# Altium footprint library PAL.PcbLib: 183 footprints (part 5 of 12)
Each footprint in its own frame and in the unit in brackets; x right, y up, seen from the top. Pads: shape width x height; smd on the part's side, far side on the other; paste and mask are expansions set on the pad; w line width, h text height; cw(c..) or ccw(c..) is an arc to the next point about the centre after c.
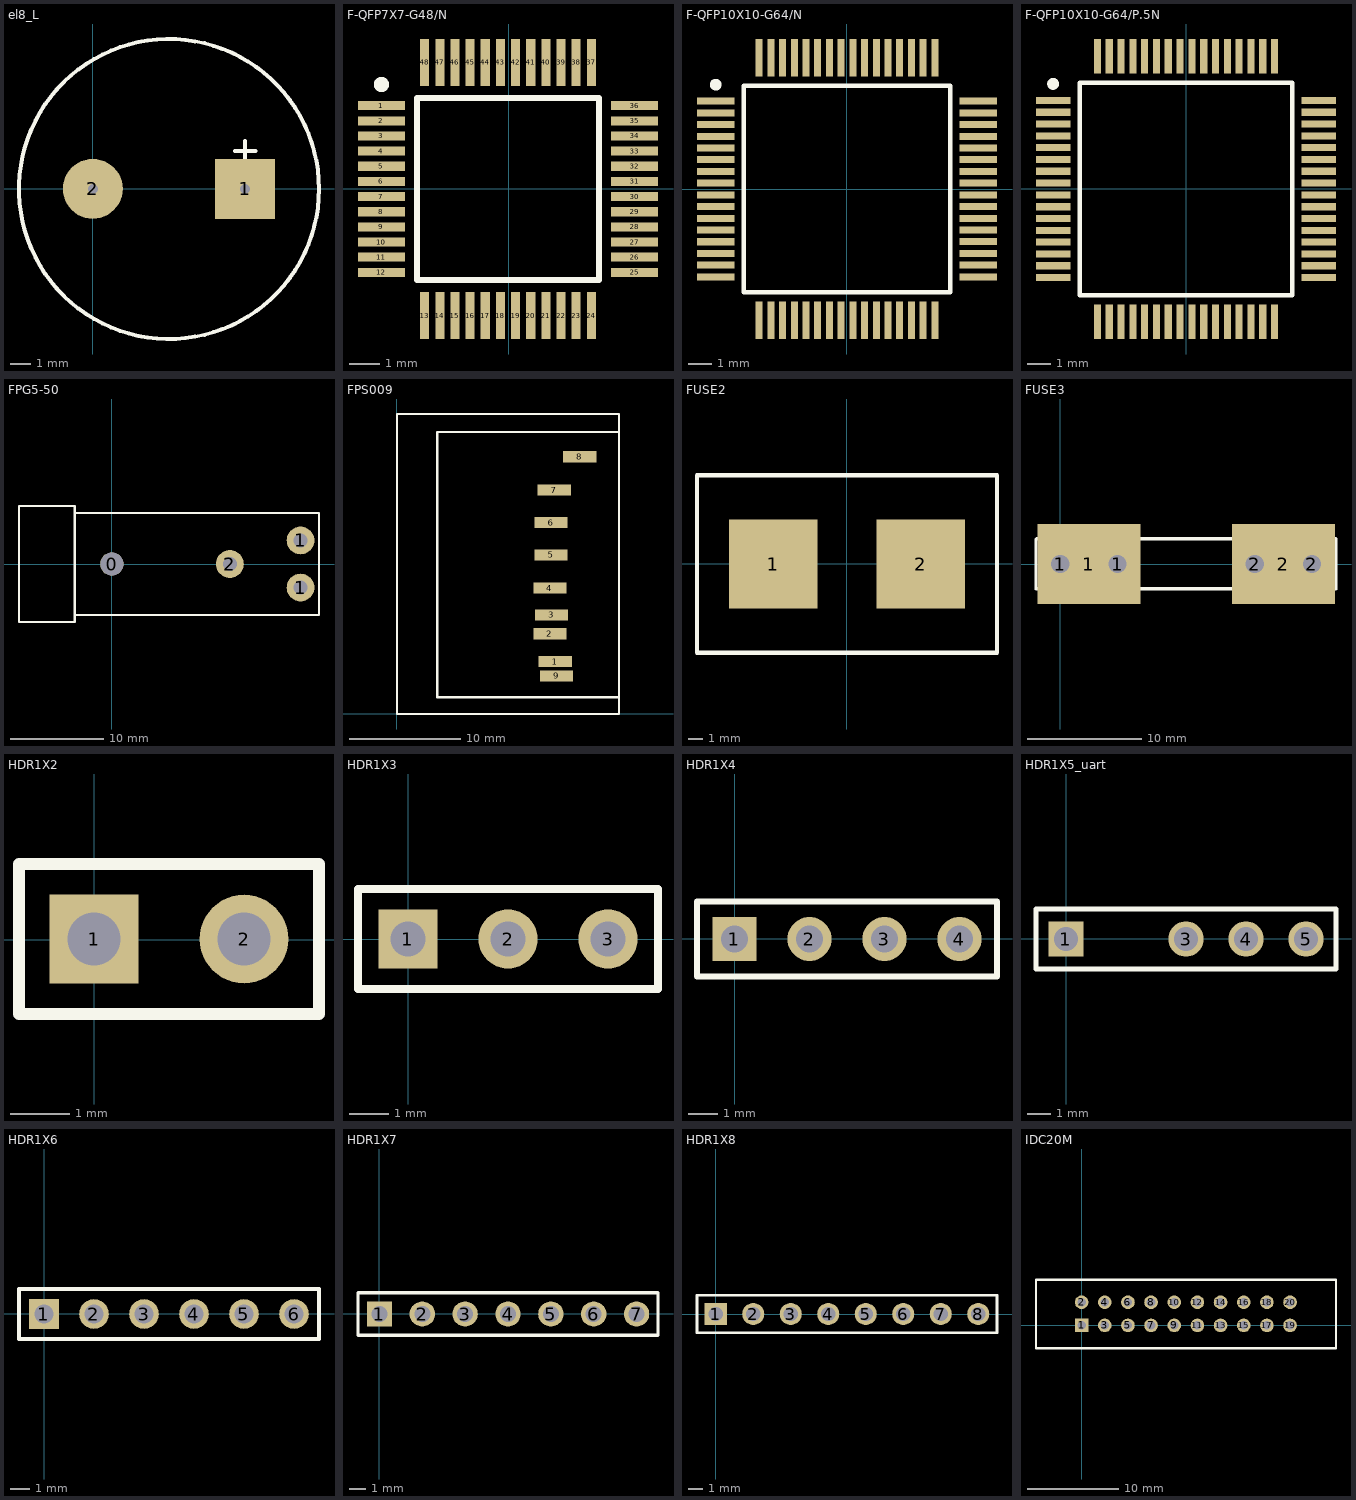
[diagram p4: the footprints below, top view; thin cyan lines are the x and y axes]

## el8_L [mm]
pads (2):
  rect 3x3 hole 0.5: 1(7.62,0)
  round 3 hole 0.5: 2(0,0)
Top Overlay:
  circle w0.2: c3.811,-0.011 r7.5
  lines w0.2: 7.111,1.889 8.127,1.889 ; 7.611,1.373 7.611,2.389

## F-QFP7X7-G48/N [mm]
pads (48):
  rect 1.55x0.3 smd: 1(-4.192,2.749) 2(-4.192,2.249) 3(-4.192,1.749) 4(-4.192,1.249) 5(-4.192,0.749) 6(-4.192,0.249) 7(-4.192,-0.251) 8(-4.192,-0.751) 9(-4.192,-1.251) 10(-4.192,-1.751) 11(-4.192,-2.251) 12(-4.192,-2.751) 25(4.158,-2.751) 26(4.158,-2.251) 27(4.158,-1.751) 28(4.158,-1.251) 29(4.158,-0.751) 30(4.158,-0.251) 31(4.158,0.249) 32(4.158,0.749) 33(4.158,1.249) 34(4.158,1.749) 35(4.158,2.249) 36(4.158,2.749)
  rect 0.3x1.55 smd: 13(-2.767,-4.176) 14(-2.267,-4.176) 15(-1.767,-4.176) 16(-1.267,-4.176) 17(-0.767,-4.176) 18(-0.267,-4.176) 19(0.233,-4.176) 20(0.733,-4.176) 21(1.233,-4.176) 22(1.733,-4.176) 23(2.233,-4.176) 24(2.733,-4.176) 37(2.733,4.174) 38(2.233,4.174) 39(1.733,4.174) 40(1.233,4.174) 41(0.733,4.174) 42(0.233,4.174) 43(-0.267,4.174) 44(-0.767,4.174) 45(-1.267,4.174) 46(-1.767,4.174) 47(-2.267,4.174) 48(-2.767,4.174)
Top Overlay:
  circle w0.25: c-4.192,3.449 r0.125
  lines w0.2: -3.017,-3.001 -3.017,2.999 2.983,2.999 2.983,-3.001 -3.017,-3.001

## F-QFP10X10-G64/N [mm]
pads (64):
  rect 1.6x0.3 smd: 1(-5.598,3.754) 2(-5.598,3.254) 3(-5.598,2.754) 4(-5.598,2.254) 5(-5.598,1.754) 6(-5.598,1.254) 7(-5.598,0.754) 8(-5.598,0.254) 9(-5.598,-0.246) 10(-5.598,-0.746) 11(-5.598,-1.246) 12(-5.598,-1.746) 13(-5.598,-2.246) 14(-5.598,-2.746) 15(-5.598,-3.246) 16(-5.598,-3.746) 33(5.602,-3.746) 34(5.602,-3.246) 35(5.602,-2.746) 36(5.602,-2.246) 37(5.602,-1.746) 38(5.602,-1.246) 39(5.602,-0.746) 40(5.602,-0.246) 41(5.602,0.254) 42(5.602,0.754) 43(5.602,1.254) 44(5.602,1.754) 45(5.602,2.254) 46(5.602,2.754) 47(5.602,3.254) 48(5.602,3.754)
  rect 0.3x1.6 smd: 17(-3.748,-5.596) 18(-3.248,-5.596) 19(-2.748,-5.596) 20(-2.248,-5.596) 21(-1.748,-5.596) 22(-1.248,-5.596) 23(-0.748,-5.596) 24(-0.248,-5.596) 25(0.252,-5.596) 26(0.752,-5.596) 27(1.252,-5.596) 28(1.752,-5.596) 29(2.252,-5.596) 30(2.752,-5.596) 31(3.252,-5.596) 32(3.752,-5.596) 49(3.752,5.604) 50(3.252,5.604) 51(2.752,5.604) 52(2.252,5.604) 53(1.752,5.604) 54(1.252,5.604) 55(0.752,5.604) 56(0.252,5.604) 57(-0.248,5.604) 58(-0.748,5.604) 59(-1.248,5.604) 60(-1.748,5.604) 61(-2.248,5.604) 62(-2.748,5.604) 63(-3.248,5.604) 64(-3.748,5.604)
Top Overlay:
  circle w0.25: c-5.598,4.454 r0.125
  lines w0.2: -4.398,-4.396 4.402,-4.396 4.402,4.404 -4.398,4.404 -4.398,-4.396

## F-QFP10X10-G64/P.5N [mm]
pads (64):
  rect 1.45x0.3 smd: 1(-5.627,3.74) 2(-5.627,3.24) 3(-5.627,2.74) 4(-5.627,2.24) 5(-5.627,1.74) 6(-5.627,1.24) 7(-5.627,0.74) 8(-5.627,0.24) 9(-5.627,-0.26) 10(-5.627,-0.76) 11(-5.627,-1.26) 12(-5.627,-1.76) 13(-5.627,-2.26) 14(-5.627,-2.76) 15(-5.627,-3.26) 16(-5.627,-3.76) 33(5.623,-3.76) 34(5.623,-3.26) 35(5.623,-2.76) 36(5.623,-2.26) 37(5.623,-1.76) 38(5.623,-1.26) 39(5.623,-0.76) 40(5.623,-0.26) 41(5.623,0.24) 42(5.623,0.74) 43(5.623,1.24) 44(5.623,1.74) 45(5.623,2.24) 46(5.623,2.74) 47(5.623,3.24) 48(5.623,3.74)
  rect 0.3x1.45 smd: 17(-3.752,-5.635) 18(-3.252,-5.635) 19(-2.752,-5.635) 20(-2.252,-5.635) 21(-1.752,-5.635) 22(-1.252,-5.635) 23(-0.752,-5.635) 24(-0.252,-5.635) 25(0.248,-5.635) 26(0.748,-5.635) 27(1.248,-5.635) 28(1.748,-5.635) 29(2.248,-5.635) 30(2.748,-5.635) 31(3.248,-5.635) 32(3.748,-5.635) 49(3.748,5.615) 50(3.248,5.615) 51(2.748,5.615) 52(2.248,5.615) 53(1.748,5.615) 54(1.248,5.615) 55(0.748,5.615) 56(0.248,5.615) 57(-0.252,5.615) 58(-0.752,5.615) 59(-1.252,5.615) 60(-1.752,5.615) 61(-2.252,5.615) 62(-2.752,5.615) 63(-3.252,5.615) 64(-3.752,5.615)
Top Overlay:
  circle w0.25: c-5.627,4.44 r0.125
  lines w0.2: -4.502,-4.51 4.498,-4.51 4.498,4.49 -4.502,4.49 -4.502,-4.51

## FPG5-50 [mm]
pads (4):
  round 2.5 hole 2.5: 0(0,0)
  round 3 hole 1.5: 1(20.32,-2.54) 1(20.32,2.54) 2(12.7,0)
Top Overlay:
  lines w0.25: -4,-5.5 22.3,-5.5 22.3,5.5 -4,5.5 ; -10,-6.25 -4,-6.25 -4,6.25 -10,6.25 -10,-6.25

## FPS009 [mm]
pads (9):
  rect 3x1 smd: 1(14.25,4.7) 2(13.775,7.2) 3(13.925,8.9) 4(13.775,11.325) 5(13.875,14.3) 6(13.875,17.225) 7(14.175,20.15) 8(16.45,23.15) 9(14.375,3.4)
Top Overlay:
  lines w0.2: 20,1.475 3.625,1.475 3.625,25.375 20,25.375 ; 0,-0.025 20,-0.025 20,27 0,27 0,-0.025

## FUSE2 [mm]
pads (2):
  rect 6x6 smd: 1(-4.999,-0.006) 2(5.001,-0.006)
Top Overlay:
  lines w0.3: -10.159,-6.006 10.161,-6.006 10.161,5.994 -10.159,5.994 -10.159,-6.006

## FUSE3 [mm]
pads (6):
  round 2.5 hole 1.6: 1(-0.002,0.011) 1(4.998,0.011) 2(16.998,0.011) 2(21.998,0.011)
  rect 9x7 smd: 1(2.498,0.011) 2(19.498,0.011)
Top Overlay:
  lines w0.3: -2.052,2.211 -2.127,2.136 -2.127,-2.139 -2.102,-2.164 24.073,-2.164 24.098,-2.139 24.098,2.236 -1.977,2.236

## HDR1X2 [mm]
pads (2):
  rect 1.5x1.5 hole 0.9: 1(-0.005,0.012)
  round 1.5 hole 0.9: 2(2.535,0.012)
Top Overlay:
  lines w0.2: -1.275,-1.258 -1.275,1.282 3.805,1.282 3.805,-1.258 -1.275,-1.258

## HDR1X3 [mm]
pads (3):
  rect 1.5x1.5 hole 0.9: 1(-0.009,0.011)
  round 1.5 hole 0.9: 2(2.531,0.011) 3(5.071,0.011)
Top Overlay:
  lines w0.2: -1.279,-1.259 6.341,-1.259 6.341,1.281 -1.279,1.281 -1.279,-1.259

## HDR1X4 [mm]
pads (4):
  rect 1.5x1.5 hole 0.9: 1(-0.012,-0.011)
  round 1.5 hole 0.9: 2(2.528,-0.011) 3(5.068,-0.011) 4(7.608,-0.011)
Top Overlay:
  lines w0.2: -1.282,-1.281 -1.282,1.259 8.878,1.259 8.878,-1.281 -1.282,-1.281

## HDR1X5_uart [mm]
pads (4):
  rect 1.5x1.5 hole 1: 1(-0.008,-0.009)
  round 1.5 hole 1: 3(5.072,-0.009) 4(7.612,-0.009) 5(10.152,-0.009)
Top Overlay:
  lines w0.2: -1.278,-1.279 11.422,-1.279 11.422,1.261 -1.278,1.261 -1.278,-1.279

## HDR1X6 [mm]
pads (6):
  rect 1.5x1.5 hole 0.95: 1(-0.012,-0.008)
  round 1.5 hole 0.95: 2(2.528,-0.008) 3(5.068,-0.008) 4(7.608,-0.008) 5(10.148,-0.008) 6(12.688,-0.008)
Top Overlay:
  lines w0.2: -1.282,-1.278 -1.282,1.262 13.958,1.262 13.958,-1.278 -1.282,-1.278

## HDR1X7 [mm]
pads (7):
  rect 1.5x1.5 hole 0.95: 1(0,-0.008)
  round 1.5 hole 0.95: 2(2.54,-0.008) 3(5.08,-0.008) 4(7.62,-0.008) 5(10.16,-0.008) 6(12.7,-0.008) 7(15.24,-0.008)
Top Overlay:
  lines w0.2: -1.27,-1.278 -1.27,1.262 16.51,1.262 16.51,-1.278 -1.27,-1.278

## HDR1X8 [mm]
pads (8):
  rect 1.5x1.5 hole 0.95: 1(-0.001,0.002)
  round 1.5 hole 0.95: 2(2.539,0.002) 3(5.079,0.002) 4(7.619,0.002) 5(10.159,0.002) 6(12.699,0.002) 7(15.239,0.002) 8(17.779,0.002)
Top Overlay:
  lines w0.2: -1.271,-1.268 19.049,-1.268 19.049,1.272 -1.271,1.272 -1.271,-1.268

## IDC20M [mm]
pads (20):
  rect 1.5x1.5 hole 0.95: 1(0,0)
  round 1.5 hole 0.95: 2(0,2.54) 3(2.54,0) 4(2.54,2.54) 5(5.08,0) 6(5.08,2.54) 7(7.62,0) 8(7.62,2.54) 9(10.16,0) 10(10.16,2.54) 11(12.7,0) 12(12.7,2.54) 13(15.24,0) 14(15.24,2.54) 15(17.78,0) 16(17.78,2.54) 17(20.32,0) 18(20.32,2.54) 19(22.86,0) 20(22.86,2.54)
Top Overlay:
  lines w0.254: -5,-2.5 27.9,-2.5 27.9,5 -5,5 -5,-2.5